# Altium footprint library SSOP50P300X300-10N.PcbLib: 1 footprints
Each footprint in its own frame and in the unit in brackets; x right, y up, seen from the top. Pads: shape width x height; smd on the part's side, far side on the other; paste and mask are expansions set on the pad; w line width, h text height; cw(c..) or ccw(c..) is an arc to the next point about the centre after c.
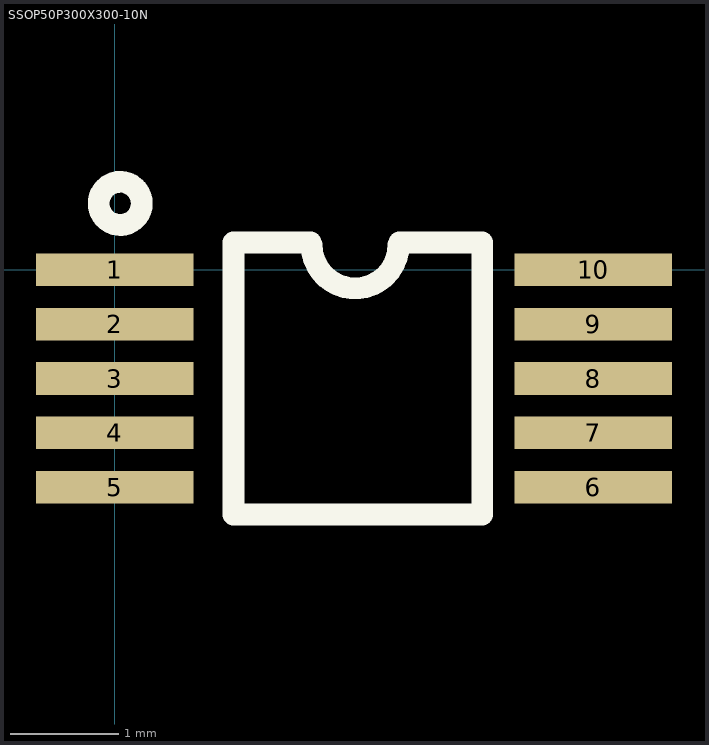
[diagram p0: the footprint, top view; thin cyan lines are the x and y axes]

## SSOP50P300X300-10N [mm] "Footprint is labelled incorrectly, should be SSOP + Pitch P + Nominal Lead Length X Height - #Pins"
pads (10):
  rect 1.45x0.3 smd: 1(0,0) 2(0,-0.5) 3(0,-1) 4(0,-1.5) 5(0,-2) 6(4.4,-2) 7(4.4,-1.5) 8(4.4,-1) 9(4.4,-0.5) 10(4.4,0)
Top Overlay:
  circle w0.2: c0.051,0.61 r0.198
  lines w0.2: 1.803,0.25 1.092,0.25 1.092,-2.25 3.378,-2.25 3.378,0.25 2.616,0.25 ; 1.81,0.229 ccw(c2.21,0.229) 2.61,0.229
3D body "DGS10.stp": height 1.09, standoff 0, extent -0.292,-2.565 4.762,0.533